# Altium footprint library ARCS_TEST.PcbLib: 1 footprints
Each footprint in its own frame and in the unit in brackets; x right, y up, seen from the top. Pads: shape width x height; smd on the part's side, far side on the other; paste and mask are expansions set on the pad; w line width, h text height; cw(c..) or ccw(c..) is an arc to the next point about the centre after c.
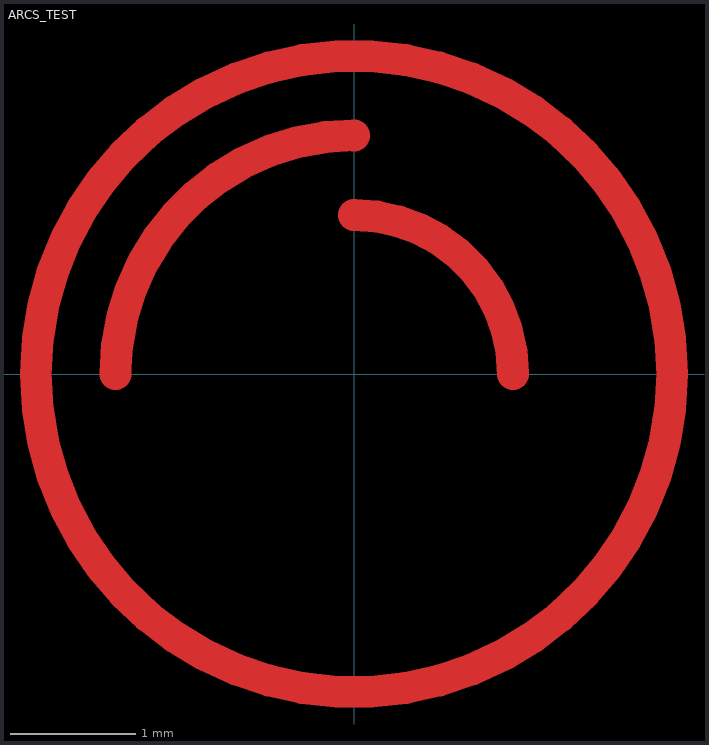
[diagram p0: the footprint, top view; thin cyan lines are the x and y axes]

## ARCS_TEST [mm] "Arcs with various angles"
Top Layer:
  circle w0.254: c0,0 r2.54
  lines w0.254: -1.905,0 cw(c0,0) 0,1.905 ; 0,1.27 cw(c0,0) 1.27,0